# EAGLE library part DS1337 (library awqua_eagle_library)
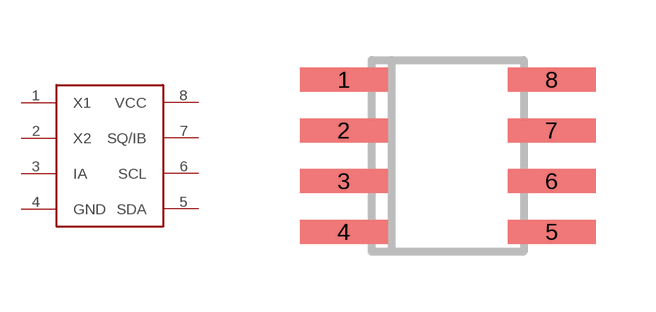
[diagram p18: symbol with the pads of DS1337; footprint DS1337]

Designator prefix -

## DS1337  [DS1337]
1  X1
2  X2
3  IA
4  GND
5  SDA
6  SCL
7  SQ/IB
8  VCC

## Footprint DS1337 (pad centres in mm)
smd 2.2 x 0.6: 1 -1.33,4.445; 2 -1.33,3.175; 3 -1.33,1.905; 4 -1.33,0.635; 5 3.87,0.635; 6 3.87,1.905; 7 3.87,3.175; 8 3.87,4.445